# Altium integrated library Altera EPC Configuration Device.IntLib: 34 symbols (part 3 of 3)
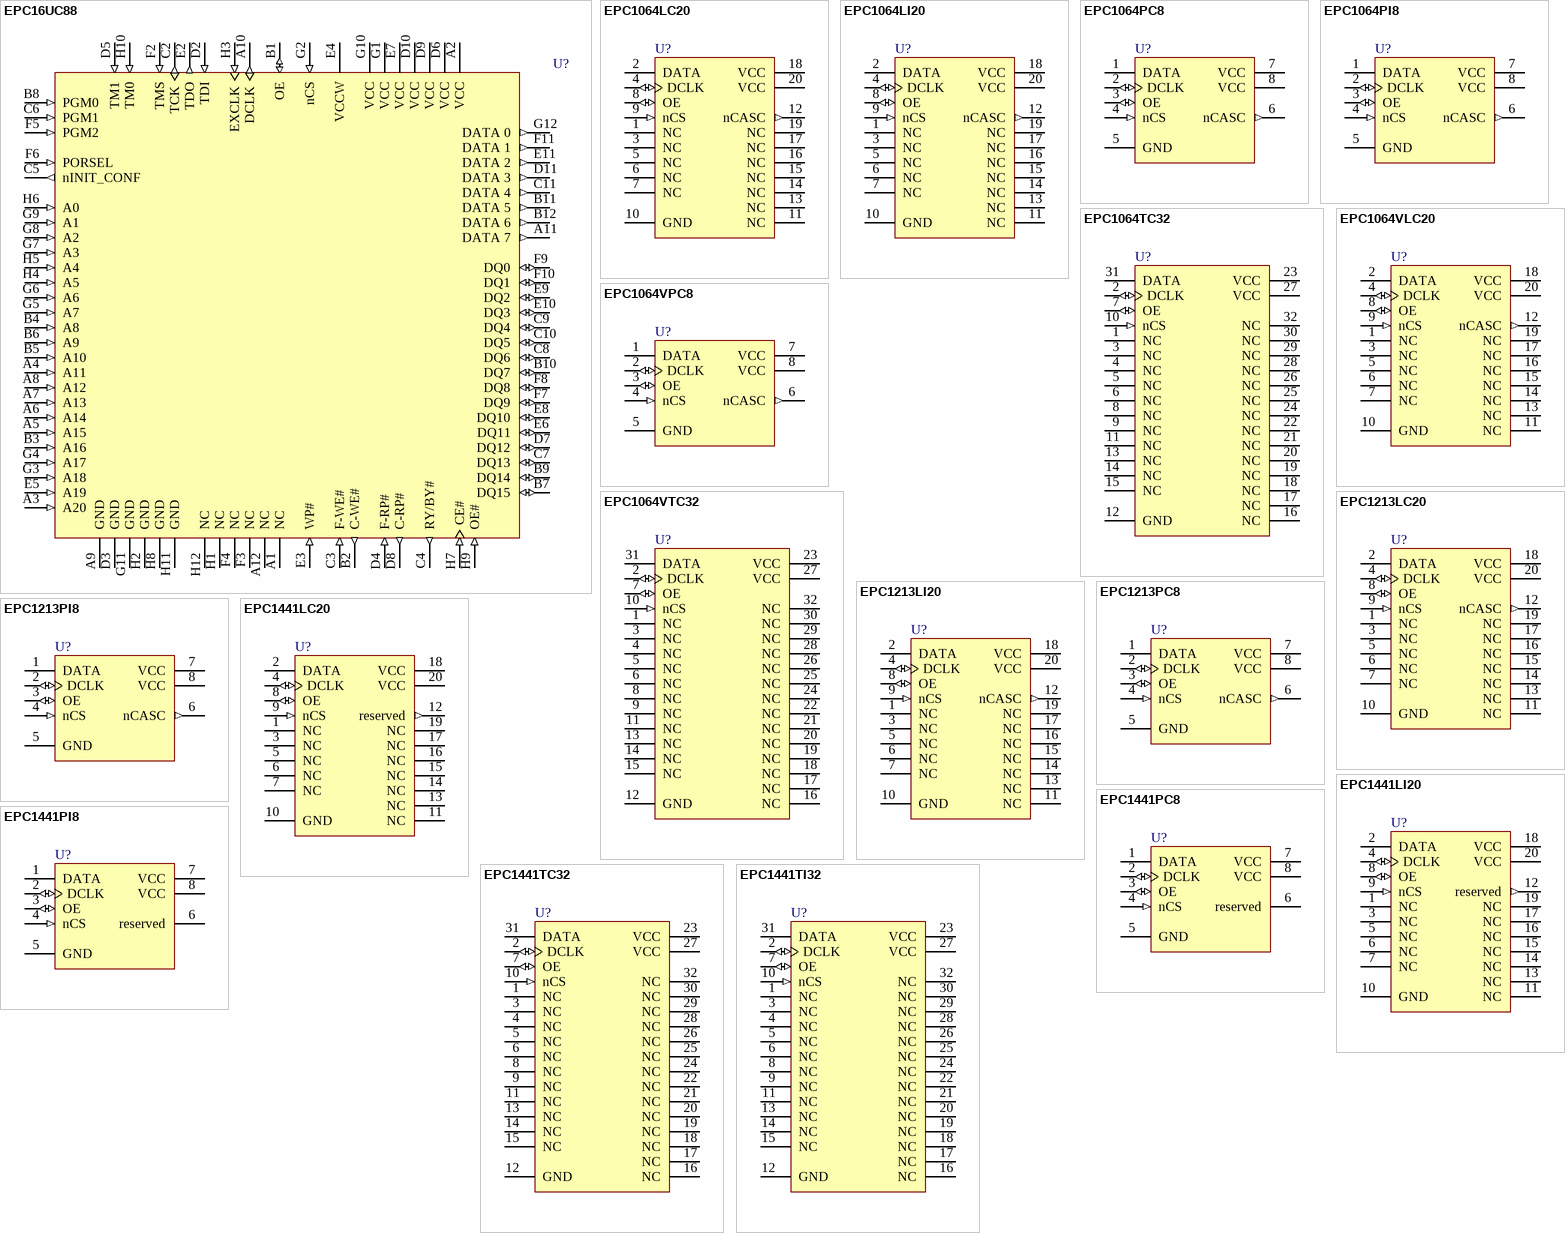
[diagram p4: symbols EPC16UC88 to EPC1441TI32]

## EPC1441TI32
designator U?
EPC1441 Series, One-time programmable 3.3 or 5V configuration device, 32-Pin TQFP, 441-Kilobit, Industrial Grade; Configures: All FLEX & ACEX Devices; Published: 17-Sep-2003; LatestRevisionDate: 13-Apr-2006; LatestRevisionNote: IPC-7351 Footprint Added.; DatasheetVersion: ver2.0, Oct-2003; PackageVersion: ver14.2, Oct-2005; PackageReference: TQFP32; Publisher: Altium Limited; PackageDescription: 32-Pin Plastic Thin Quad Flat Pack (TFQP32); Code_JEDEC: MS-026-ABA; ComponentLink1Description: Manufacturer Link; ComponentLink1URL: http://www.altera.com/products/devices/config/cfg-index.html; ComponentLink2Description: Configuration Handbook; ComponentLink2URL: http://www.altera.com/literature/hb/cfg/config_handbook.pdf; ComponentLink3Description: Pinout Specification; ComponentLink3URL: http://www.altera.com/literature/hb/cfg/cfg_cf52004.pdf; ComponentLink4Description: Packaging Specification; ComponentLink4URL: http://www.altera.com/literature/ds/dspkg.pdf
footprint TQFP32_N (Thin QFP, 32-Leads, Body 7x7mm, Pitch 0.8mm, IPC Medium Density)
footprint TQFP32_L (Thin QFP, 32-Leads, Body 7x7mm, Pitch 0.8mm, IPC High Density)
footprint TQFP32_M (Thin QFP, 32-Leads, Body 7x7mm, Pitch 0.8mm, IPC Low Density)
3D model EPC1441-TQFP32 (32-Pin Plastic Thin Quad Flat Pack (TFQP32))
pins: 1 NC "No Connect", 2 DCLK (io), 3 NC "No Connect", 4 NC "No Connect", 5 NC "No Connect", 6 NC "No Connect", 7 OE (io) "Output enable, and active low reset", 8 NC "No Connect", 9 NC "No Connect", 10 nCS (in) "Active low, chip select input", 11 NC "No Connect", 12 GND (power) "Ground", 13 NC "No Connect", 14 NC "No Connect", 15 NC "No Connect", 16 NC "No Connect", 17 NC "No Connect", 18 NC "No Connect", 19 NC "No Connect", 20 NC "No Connect", 21 NC "No Connect", 22 NC "No Connect", 23 VCC (power) "Power Supply", 24 NC "No Connect", 25 NC "No Connect", 26 NC "No Connect", 27 VCC (power) "Power Supply", 28 NC "No Connect", 29 NC "No Connect", 30 NC "No Connect", 31 DATA (hiz) "Serial data out", 32 NC "No Connect"